# EAGLE library part MICRO:BIT (library Tinkercad)
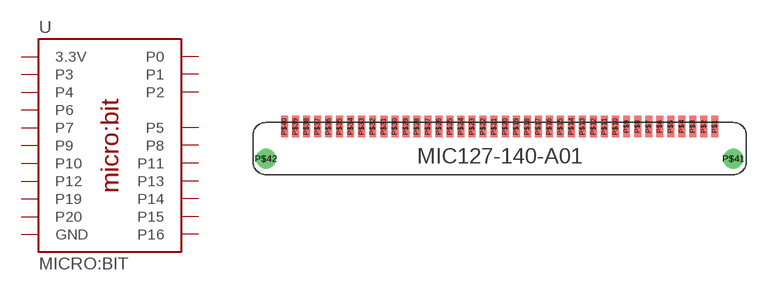
[diagram p30: symbol with the pads of MIC127-140-A01; footprint MIC127-140-A01]

Designator prefix -

## MICRO:BIT_MIC127  [MIC127-140-A01]
P$1  P3
P$2  P0
P$3  P0
P$4  P0
P$5  P0
P$6  P4
P$7  P5
P$8  P6
P$9  P7
P$10  P1
P$11  P1
P$12  P1
P$13  P1
P$14  P8
P$15  P9
P$16  P10
P$17  P11
P$18  P12
P$19  P2
P$20  P2
P$21  P2
P$22  P2
P$23  P13
P$24  P14
P$25  P15
P$26  P16
P$27  3.3V
P$28  3.3V
P$29  3.3V
P$30  3.3V
P$31  3.3V
P$32  3.3V
P$33  P19
P$34  P20
P$35  GND
P$36  GND
P$37  GND
P$38  GND
P$39  GND
P$40  GND

## Footprint MIC127-140-A01 (pad centres in mm)
smd 0.8 x 2.502: P$1 24.765,2.54; P$2 23.495,2.54; P$3 22.225,2.54; P$4 20.955,2.54; P$5 19.685,2.54; P$6 18.415,2.54; P$7 17.145,2.54; P$8 15.875,2.54; P$9 14.605,2.54; P$10 13.335,2.54; P$11 12.065,2.54; P$12 10.795,2.54; P$13 9.525,2.54; P$14 8.255,2.54; P$15 6.985,2.54; P$16 5.715,2.54; P$17 4.445,2.54; P$18 3.175,2.54; P$19 1.905,2.54; P$20 0.635,2.54; P$21 -0.635,2.54; P$22 -1.905,2.54; P$23 -3.175,2.54; P$24 -4.445,2.54; P$25 -5.715,2.54; P$26 -6.985,2.54; P$27 -8.255,2.54; P$28 -9.525,2.54; P$29 -10.795,2.54; P$30 -12.065,2.54; P$31 -13.335,2.54; P$32 -14.605,2.54; P$33 -15.875,2.54; P$34 -17.145,2.54; P$35 -18.415,2.54; P$36 -19.685,2.54; P$37 -20.955,2.54; P$38 -22.225,2.54; P$39 -23.495,2.54; P$40 -24.765,2.54
drill 1.1 pad 2.3: P$41 26.899,-1.168; P$42 -26.899,-1.168